# EAGLE library part 662006231722 (library Wurth_Elektronik_Electromechanic_Wire_to_Board_Connectors_rev16a)
WR-MPC3 3.00mm Male Dual Row SMT Angled Header SMT Fitting Nail Clip, 6 Pins=>Code : Con_WTB_MPC3_2_PCB_SMT_662006231722 <http://katalog.we-online.de/media/thumbs2/eican/thb_Con_WTB_MPC3_2_PCB_SMT_6620xx231722_pf2.jpg> Details see: http://katalog.we-online.de/en/em/662_0xx_231_722 Created 2014-06-06, Karrer Zheng 2014 (C) Würth Elektronik
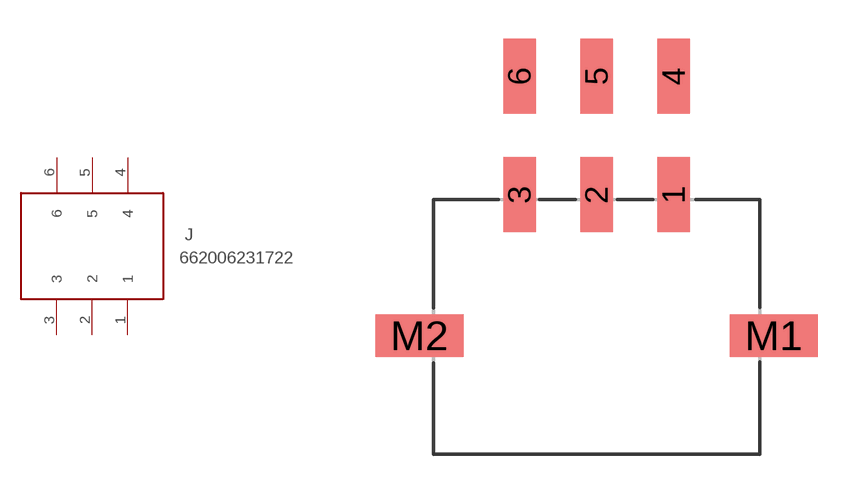
[diagram p330: symbol with the pads of 662006231722; footprint 662006231722]

Designator prefix J

## 662006231722  [662006231722]
1  1  pas
2  2  pas
3  3  pas
4  4  pas
5  5  pas
6  6  pas

## Footprint 662006231722 (pad centres in mm)
WR-MPC3 3.00mm Male Dual Row SMT Angled Header SMT Fitting Nail Clip, 6 Pins
smd 1.27 x 2.92: 1 3,5.48; 2 0,5.48; 3 -3,5.48; 4 3,10.1; 5 0,10.1; 6 -3,10.1
smd 3.43 x 1.65: M1 6.895,0; M2 -6.895,0